# Altium schematic symbol library Control Levitador.SCHLIB: 17 symbols
Pins are listed as number, name and electrical type; pins without a type are passive.

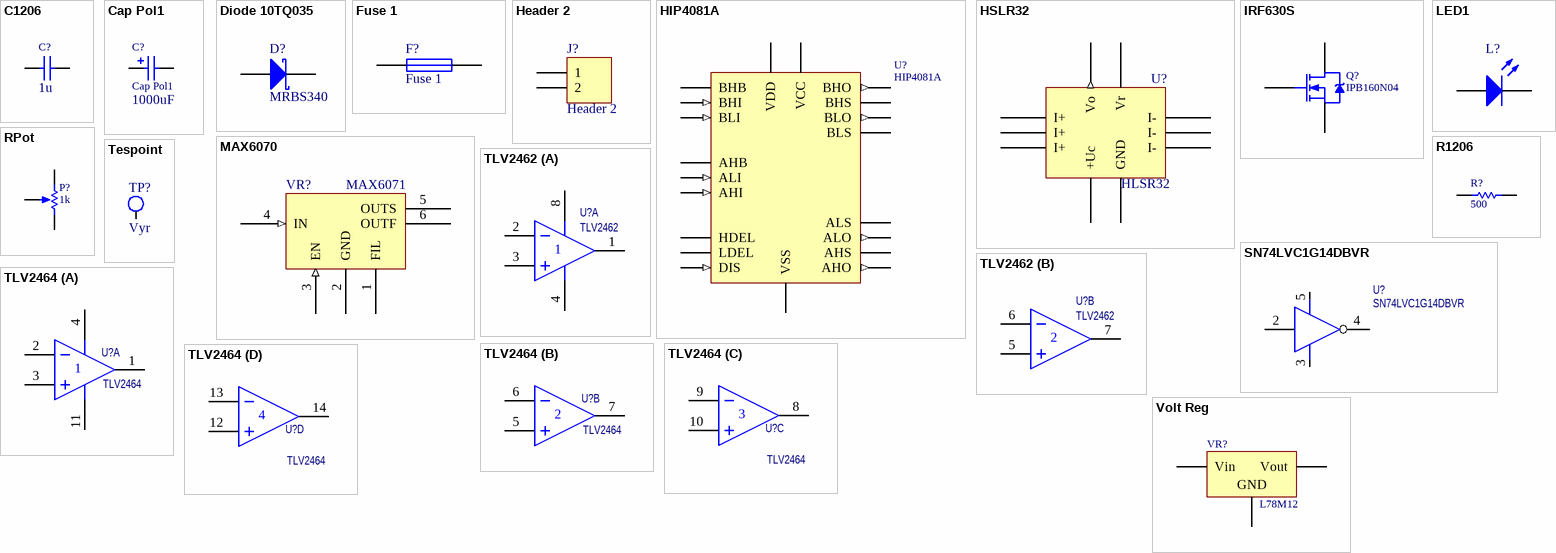
[diagram p0: symbols C1206 to Volt Reg]

## C1206
designator C?, comment 1u
Capacitor Chip 1206; Dielectric: NP0; Voltage: 50V; Published: 8-Jun-2000; LatestRevisionDate: 26/08/2013; LatestRevisionNote: IPC-7351 Footprint Added.; PackageReference: 1206; Publisher: Altium Limited; PackageDescription: Chip Capacitor; Supplier 1: Digi-Key; Value: 1u
footprint C1206 (Chip Capacitor, Body 3.2x1.6mm, IPC High Density)
footprint C2512 (Chip Capacitor, Body 2.54x1.27mm, IPC High Density)
footprint C1210 (Chip Capacitor, Body 3.2x2.5mm, IPC High Density)
simulation model CAP (Semiconductor Capacitor)
footprint C0805 (Chip Capacitor; Body 2.0 x 1.2 mm (LxW typ))
pins: 1, 2

## Cap Pol1
designator C?  value 1000uF
Polarized Capacitor (Radial); Published: 8-Jun-2000; LatestRevisionDate: 17-Jul-2002; LatestRevisionNote: Re-released for DXP Platform.; PackageReference: RB7.6-15; Publisher: Altium Limited
footprint RB7.6-15 (Polarized Capacitor (Radial); 2 Leads)
footprint HA-C1 (Capacitor, Radial, Tantalum; Body 1.7 x 2.8 mm (Dia.xH max); Pin Spacing 1.27 mm (typ))
footprint ALU CASE P (Footprint not found)
footprint B (Capacitor, Electrolytic, Radial; Body 5 x 6.8 mm (Dia.xH typ); Pin Spacing 2 mm (typ))
footprint CAPPR5-5x5 (Capacitor, Electrolytic, Radial; Body 5 x 5 mm (Dia.xH typ); Pin Spacing 5 mm (typ))
footprint CAPPR7.5-16x35 (Capacitor, Electrolytic, Radial; Body 16 x 35 mm (Dia.xH typ); Pin Spacing 7.5 mm (typ))
simulation model CAP (Capacitor)
signal-integrity model Cap Pol
pins: 1, 2
1 alternate drawing of the same symbol

## Diode 10TQ035
designator D?, comment MRBS340
Schottky Rectifier; Note: Terminal 2 is the TAB and is electrically connected to the cathode; Published: 8-Jun-2000; LatestRevisionDate: 17-Jul-2002; LatestRevisionNote: Re-released for DXP Platform.; DatasheetDocument: PD-2.057B; PackageDocument: Feb-1998; PackageReference: TO-220AC; Publisher: Altium Limited; ComponentLink1Description: Manufacturer Link; ComponentLink1URL: http://www.irf.com/; ComponentLink2Description: Datasheet; ComponentLink2URL: http://www.irf.com/product-info/datasheets/data/10tq.pdf
footprint TO-220AC (TO, Thru-Hole, Vertical, Heatsink Mounted; 3 In-Line Leads (1 Absent); Pitch 2.54 mm)
simulation model 10TQ035 (DIODE)
footprint DO214AB (Footprint not found)
footprint SMC (DO-214-AB/SMC; 2 C-Bend Leads; Body 7.9 x 5.9 mm, inc. leads (LxW))
pins: 1 A, 2 K

## Fuse 1
designator F?
Fuse; Published: 8-Jun-2000; LatestRevisionDate: 17-Jul-2002; LatestRevisionNote: Re-released for DXP Platform.; PackageReference: PIN-W2/E2.8; Publisher: Altium Limited
footprint PIN-W2/E2.8 (Fuse; 2 Leads)
simulation model FUSE (Spice Subcircuit)
footprint R1206 (Chip Resistor, Body 3.0x1.5mm)
pins: 1, 2

## Header 2
designator J?
Header, 2-Pin; LatestRevisionDate: 17-Jul-2002; LatestRevisionNote: Re-released for DXP Platform.; Publisher: Altium Limited
footprint HDR1X2 (Connector; Header; 2 Position)
signal-integrity model Connector
footprint SMKDS5-2-9.5 (Phoenix Contact; Terminal block; 2way; 32A max; 9.52mm pitch; 135°)
pins: 1, 2

## HIP4081A
designator U?
INTERSIL, 80V, 2.5A peak, High Frequency Full Bridge FET Driver
footprint DIP20 (Footprint not found)
footprint SOIC20 (Footprint not found)
pins: 1 BHB (power), 2 BHI (in), 3 DIS (in), 4 VSS (power), 5 BLI (in), 6 ALI (in), 7 AHI (in), 8 HDEL, 9 LDEL, 10 AHB (power), 11 AHO (out), 12 AHS, 13 ALO (out), 14 ALS, 15 VCC (power), 16 VDD (power), 17 BLS, 18 BLO (out), 19 BHS, 20 BHO (out)

## HSLR32
designator U?, comment HLSR32
Hall Effect Current Sensor
footprint HSLR-P
pins: 1 Vr, 2 Vo (out), 3 GND (power), 4 +Uc (power), 5 I-, 6 I-, 7 I-, 8 I+, 9 I+, 10 I+

## IRF630S
designator Q?, comment IPB160N04
HEXFET N-Channel Power MOSFET; Published: 8-Jun-2000; LatestRevisionDate: 17-Jul-2002; LatestRevisionNote: Re-released for DXP Platform.; DatasheetVersion: PD-9.901; PackageReference: PG-TO263-7-3; Publisher: Altium Limited; PackageDescription: D2-PAK/TO-263-AB; 3 Leads (1 Cropped); Body 15.5 (inc. leads) x 10.5 mm (LxW max); ComponentLink1Description: Manufacturer Link; ComponentLink1URL: http://www.irf.com/; ComponentLink2Description: Datasheet; ComponentLink2URL: http://www.irf.com/product-info/datasheets/data/irf630s.pdf
footprint D2PAK (D2-PAK/TO-263-AB; 3 Leads (1 Cropped); Body 15.5 (inc. leads) x 10.5 mm (LxW max))
simulation model IRF630S (SUBCKT)
footprint PG-TO263-7-3 (Footprint not found)
footprint TO263-7S
pins: 1 G, 2 S, 3 S, 4 D, 5 S, 6 S, 7 S

## LED1
designator L?  (value not drawn)
Typical RED GaAs LED; Published: 8-Jun-2000; LatestRevisionDate: 08-Jul-2005; LatestRevisionNote: Mech Layer 1 removed.; PackageReference: LED-1; Publisher: Altium Limited
footprint LED-1 (Typical RED GaAs LED; 2 Leads)
simulation model LED1 (Diode)
footprint LED 1206 RED (Led SMD 1206)
pins: 1 A, 2 K

## MAX6070
designator VR?, comment MAX6071
footprint SOT23-6
pins: 1 FIL "Filter input", 2 GND (power) "Power ground", 3 EN (in) "Enable pin", 4 IN (in) "Input voltage", 5 OUTS "Voltage reference sense out", 6 OUTF "Voltage reference force out"

## R1206
designator R?, comment 500
Resistor Chip; 1/8W;; Published: 8-Jun-2000; LatestRevisionDate: 26/8/2013; PackageReference: 1206; Publisher: Altium Limited; PackageDescription: SMT Chip Resistor; Supplier 1: Digi-Key; Value: 500
simulation model RESISTOR (Resistor)
footprint R1206 (Chip Resistor, Body 3.0x1.5mm)
pins: 1, 2

## RPot
designator P?  value 1k  (hidden comment: RPot)
Potentiometer; Sim Note: Enter the Resistance value and the set point into parameter fields.; Set Position: 0.5; Published: 8-Jun-2000; LatestRevisionDate: 17-Jul-2002; LatestRevisionNote: Re-released for DXP Platform.; PackageReference: VR5; Publisher: Altium Limited
footprint VR5 (Potentiometer; 3 Leads)
simulation model POT (Potentiometer)
footprint BOR3 (Bornera con tornillos)
pins: 1 TOP, 2 TAP, 3 BOT
1 alternate drawing of the same symbol

## SN74LVC1G14DBVR
designator U?
Schmitt-Trigger Inverter; Published: 8-Jun-2000; LatestRevisionDate: 13-Apr-2006; LatestRevisionNote: IPC-7351 Footprint Added.; DatasheetVersion: Jul-1998; PackageVersion: Jan-1998; PackageReference: D014; Publisher: Altium Limited; PackageDescription: 14-Pin Small Outline Integrated Circuit 1.27 mm Pitch; Code_IPC: SOIC127P600-14; ComponentLink1Description: Manufacturer Link; ComponentLink1URL: http://www.ti.com/; ComponentLink2Description: Datasheet; ComponentLink2URL: http://www-s.ti.com/sc/ds/sn74ahc14.pdf; ComponentLink3Description: Packaging Specification; ComponentLink3URL: http://focus.ti.com/lit/ml/mpds177/mpds177.pdf
footprint SOT23-5
pins: 2 A, 3 V- (power), 4 Y, 5 V+ (power)

## Tespoint
designator TP?, comment Vyr
Test point
footprint TestPoint TH (Thru hole test point)
footprint TestPoint Keystone 5000 Silver-Red (Thru hole test point)
footprint TestPoint Keystone 5001 Silver-Black (Thru hole test point)
footprint TestPoint Keystone 5002 Silver-White (Thru hole test point)
footprint TestPoint Keystone 5003 Silver-Orange (Thru hole test point)
footprint TestPoint Keystone 5004 Silver-Yellow (Thru hole test point)
pins: 1

## TLV2462
designator U?
Dual Low-Power Operational Amplifier; Published: 15-Apr-2002; LatestRevisionDate: 13-Apr-2006; LatestRevisionNote: IPC-7351 Footprint Added.; DatasheetVersion: Jul-1988; PackageVersion: Jan-1998; PackageReference: D008; Publisher: Altium Limited; PackageDescription: 8-Pin Small Outline Integrated Circuit 1.27 mm Pitch; Code_IPC: SOIC127P600-8; ComponentLink1Description: Manufacturer Link; ComponentLink1URL: http://www.ti.com/; ComponentLink2Description: Datasheet; ComponentLink2URL: http://www-s.ti.com/sc/ds/tl022.pdf
footprint D008_L (SOIC, 8-Leads, Body 4.9x3.9mm, Pitch 1.27mm, IPC High Density)
footprint D008_M (SOIC, 8-Leads, Body 4.9x3.9mm, Pitch 1.27mm, IPC Low Density)
footprint D008_M (SOIC, 8-Leads, Body 4.9x3.9mm, Pitch 1.27mm, IPC Low Density)
3D model D008 (8-Pin Small Outline Integrated Circuit 1.27 mm Pitch)
footprint SOIC8 (SOIC, 8-Leads, 150mils; Body 4.9x3.9mm, Pitch 1.27mm, IPC High Density)
part A pins: 1 OUT, 2 IN-, 3 IN+, 4 V- (power), 8 V+ (power)
part B pins: 5 IN+, 6 IN-, 7 OUT

## TLV2464
designator U?
Dual Low-Power Operational Amplifier; Published: 15-Apr-2002; LatestRevisionDate: 13-Apr-2006; LatestRevisionNote: IPC-7351 Footprint Added.; DatasheetVersion: Jul-1988; PackageVersion: Jan-1998; PackageReference: D008; Publisher: Altium Limited; PackageDescription: 8-Pin Small Outline Integrated Circuit 1.27 mm Pitch; Code_IPC: SOIC127P600-8; ComponentLink1Description: Manufacturer Link; ComponentLink1URL: http://www.ti.com/; ComponentLink2Description: Datasheet; ComponentLink2URL: http://www-s.ti.com/sc/ds/tl022.pdf
footprint D008_M (SOIC, 8-Leads, Body 4.9x3.9mm, Pitch 1.27mm, IPC Low Density)
footprint D008_M (SOIC, 8-Leads, Body 4.9x3.9mm, Pitch 1.27mm, IPC Low Density)
footprint SOIC14 (SOIC, 14-Leads, 150mils; Body 9.9x..mm, Pitch 1.27mm, IPC Low Density)
part A pins: 1 OUT, 2 IN-, 3 IN+, 4 V+ (power), 11 V- (power)
part B pins: 5 IN+, 6 IN-, 7 OUT
part C pins: 8 OUT, 9 IN-, 10 IN+
part D pins: 12 IN+, 13 IN-, 14 OUT

## Volt Reg
designator VR?, comment L78M12
Voltage Regulator; Published: 24-Mar-1999; LatestRevisionDate: 17-Jul-2002; LatestRevisionNote: Re-released for DXP Platform.; PackageReference: D2PAK; Publisher: Altium Limited; Code_JEDEC: SMD-220
footprint D2PAK (D2-PAK/TO-263-AB; 3 Leads (1 Cropped); Body 15.5 (inc. leads) x 10.5 mm (LxW max))
footprint DPAK (Footprint not found)
footprint TO252-AA
pins: 1 Vin, 3 Vout, 4 GND